# Altium schematic symbol library WH-LTE-7S1.SCHLIB: 1 symbol
Pins are listed as number, name and electrical type; pins without a type are passive.

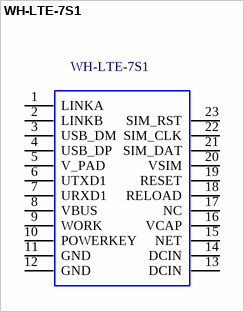
[diagram p0: symbol WH-LTE-7S1]

## WH-LTE-7S1
designator U?
PCB DECAL: WH-LTE-7S1
pins: 1 LINKA, 2 LINKB, 3 USB_DM, 4 USB_DP, 5 V_PAD, 6 UTXD1, 7 URXD1, 8 VBUS, 9 WORK, 10 POWERKEY, 11 GND, 12 GND, 13 DCIN, 14 DCIN, 15 NET, 16 VCAP, 17 NC, 18 RELOAD, 19 RESET, 20 VSIM, 21 SIM_DAT, 22 SIM_CLK, 23 SIM_RST